# EAGLE library part CON-HTST-106-01-L-DV (library BreakoutBoard)
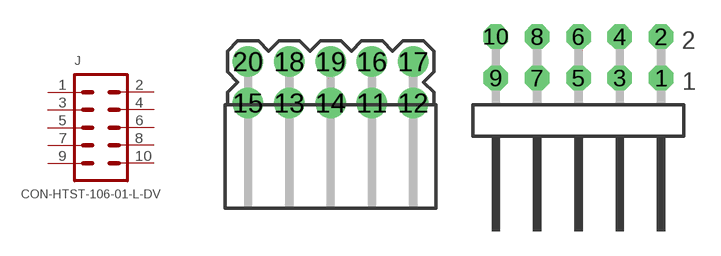
[diagram p15: symbol with the pads of TSW-105-02-S-D-RA; footprint TSW-105-02-S-D-RA]

Designator prefix J

## CON-HTST-106-01-L-DV  [TSW-105-02-S-D-RA]
1  1  pas
2  2  pas
3  3  pas
4  4  pas
5  5  pas
6  6  pas
7  7  pas
8  8  pas
9  9  pas
10  10  pas

## Footprint TSW-105-02-S-D-RA (pad centres in mm)
Through-hole .025" SQ Post Header Right Angle Source: http://media.digikey.com/PDF/Data%20Sheets/Samtec/TSS,TST,HTSS,HTST,ZSS,ZST_Series.pdf
drill 1 pad 1.5 octagon: 1 5.08,1.524; 2 5.08,4.064; 3 2.54,1.524; 4 2.54,4.064; 5 0,1.524; 6 0,4.064; 7 -2.54,1.524; 8 -2.54,4.064; 9 -5.08,1.524; 10 -5.08,4.064
drill 1.016 pad 1.88: 11 -12.7,0; 12 -10.16,0; 13 -17.78,0; 14 -15.24,0; 15 -20.32,0; 16 -12.7,2.54; 17 -10.16,2.54; 18 -17.78,2.54; 19 -15.24,2.54; 20 -20.32,2.54